# Altium footprint library SKY6611211.PcbLib: 1 footprints
Each footprint in its own frame and in the unit in brackets; x right, y up, seen from the top. Pads: shape width x height; smd on the part's side, far side on the other; paste and mask are expansions set on the pad; w line width, h text height; cw(c..) or ccw(c..) is an arc to the next point about the centre after c.
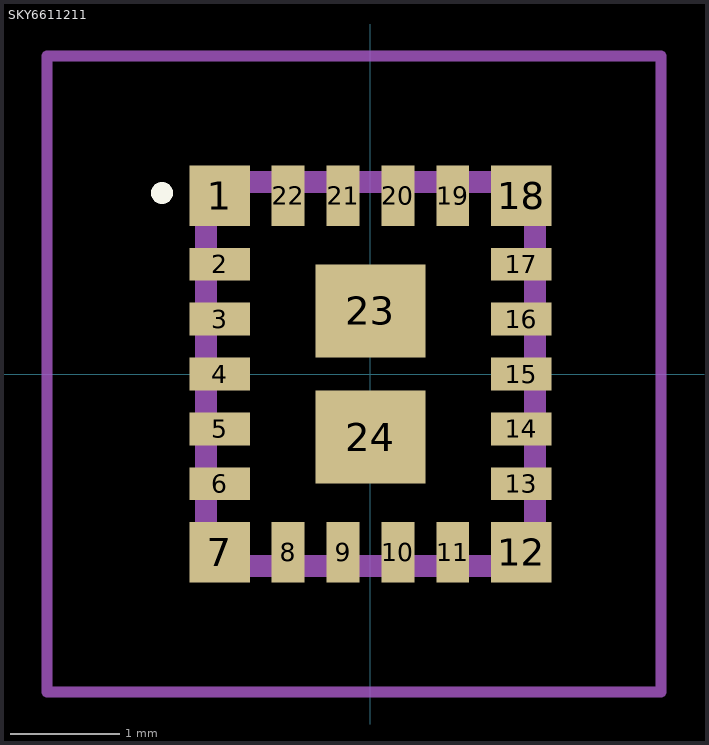
[diagram p0: the footprint, top view; thin cyan lines are the x and y axes]

## SKY6611211 [mm]
pads (24):
  rect 0.55x0.55 smd: 1(-1.375,1.625) 7(-1.375,-1.625) 12(1.375,-1.625) 18(1.375,1.625)
  rect 0.55x0.3 smd: 2(-1.375,1) 3(-1.375,0.5) 4(-1.375,0) 5(-1.375,-0.5) 6(-1.375,-1) 13(1.375,-1) 14(1.375,-0.5) 15(1.375,0) 16(1.375,0.5) 17(1.375,1)
  rect 0.3x0.55 smd: 8(-0.75,-1.625) 9(-0.25,-1.625) 10(0.25,-1.625) 11(0.75,-1.625) 19(0.75,1.625) 20(0.25,1.625) 21(-0.25,1.625) 22(-0.75,1.625)
  rect 1x0.85 smd: 23(0,0.575) 24(0,-0.575)
Top Overlay:
  lines w0.1: -1.9,1.6 ccw(c-1.9,1.65) -1.9,1.7 ; -1.9,1.6 -1.9,1.6 ; -1.9,1.6 cw(c-1.9,1.65) -1.9,1.7 ; -1.9,1.7 -1.9,1.7
Mechanical 15:
  lines w0.2: -1.5,-1.75 1.5,-1.75 1.5,1.75 -1.5,1.75 -1.5,-1.75
Mechanical 20:
  lines w0.1: -2.95,-2.9 2.65,-2.9 2.65,2.9 -2.95,2.9 -2.95,-2.9